# Altium schematic symbol library ENCLOSURES.SchLib: 1 symbol
Pins are listed as number, name and electrical type; pins without a type are passive.

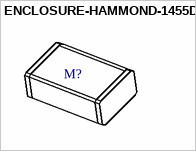
[diagram p0: symbol ENCLOSURE-HAMMOND-1455D801]

## ENCLOSURE-HAMMOND-1455D801
designator M?  (value not drawn)  (mechanical)
ENCLOSURE,ALU.EXTRUDED,3.2inX1.8inX0.99in; Manufacturer 1: HAMMOND MANUFACTURING; Manufacturer Part Number 1: 1455D801; MOUSER: 546-1455D801